# Altium footprint library FB_0805_2012.PcbLib: 1 footprints
Each footprint in its own frame and in the unit in brackets; x right, y up, seen from the top. Pads: shape width x height; smd on the part's side, far side on the other; paste and mask are expansions set on the pad; w line width, h text height; cw(c..) or ccw(c..) is an arc to the next point about the centre after c.
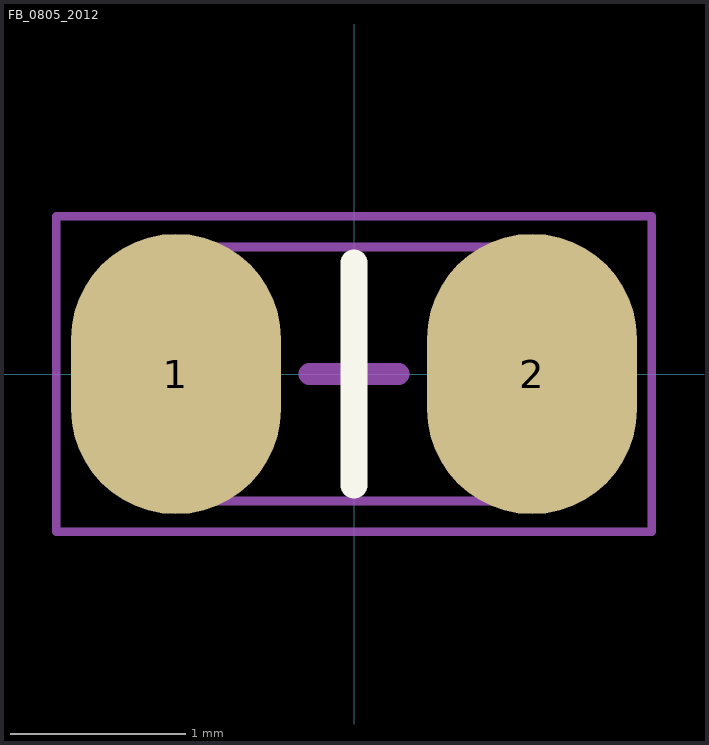
[diagram p0: the footprint, top view; thin cyan lines are the x and y axes]

## FB_0805_2012 [mm]
pads (2):
  oval 1.2x1.6 smd mask+0.05: 1(-1.016,0) 2(1.016,0)
Top Overlay:
  lines w0.152: 0,-0.635 0,0.635
Assembly Top:
  lines w0.051: -1.1,-0.725 1.1,-0.725 1.1,0.725 -1.1,0.725 -1.1,-0.725
Courtyard Top:
  lines w0.05: -1.7,-0.9 1.7,-0.9 1.7,0.9 -1.7,0.9 -1.7,-0.9
  lines w0.127: -0.254,0 0.254,0 ; 0,-0.254 0,0.254
3D body "User Library-FB_2012.STEP": height 0.85, standoff 0, extent -0.989,-0.625 1.011,0.625